# Altium schematic symbol library RES - Surface Mount Chip Resistor.SchLib: 33 symbols (part 1 of 2)
Pins are listed as number, name and electrical type; pins without a type are passive.

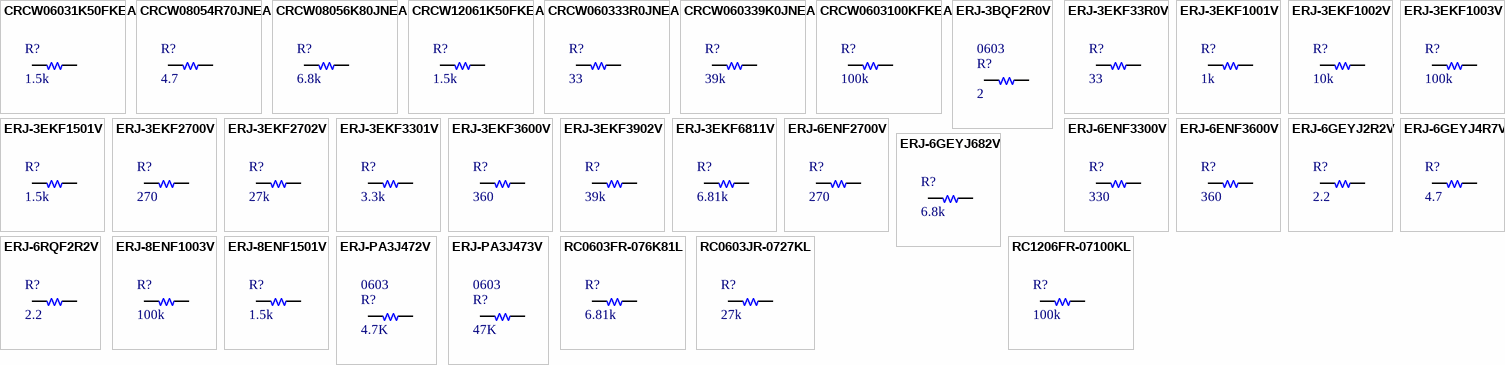
[diagram p0: symbols CRCW06031K50FKEA to RC1206FR-07100KL]

## CRCW06031K50FKEA
designator R?, comment 1.5k
RES SMD 1.5K OHM 1% 1/10W 0603; Manufacturer: Vishay Dale; Manufacturer Part Number: CRCW06031K50FKEA; Power (Watts): 0.1W, 1/10W; Temperature Coefficient: ±100ppm/°C; Power Rating: 100 mW; Voltage Rating: 75 V; Brand: Vishay / Dale; Supplier 1: Digi-Key; RoHS: RoHS Compliant; Category: Resistors; Stock 1: 135073; Pricing 1: 1=0.1, 10=0.03, 25=0.022, 50=0.0168, 100=0.0123, 250=0.0094, 500=0.00752, 1000=0.00554, 2500=0.00481 (USD); Packaging: Cut Tape (CT); Part Status: Active; Tolerance: ±1%; Composition: Thick Film; Features: Automotive AEC-Q200; Operating Temperature: -55°C ~ 155°C; Package: 0603 (1608 Metric); Supplier Device Package: 0603; Size / Dimension: 0.063" L x 0.033" W (1.60mm x 0.85mm); Height - Seated (Max): 0.020" (0.50mm); Number of Terminations: 2; Failure Rate: -; ComponentLink1URL: http://www.vishay.com/docs/20035/dcrcwe3.pdf; ComponentLink1Description: http://www.vishay.com/docs/20035/dcrcwe3.pdf; Supplier 2: Mouser; Stock 2: 209952; Pricing 2: 1=0.100, 10=0.044, 100=0.026, 500=0.021, 1000=0.018, 5000=0.006, 25000=0.005, 50000=0.004 (USD); Height: 0.45 mm; Length: 1.55 mm; Operating Temperature Range: - 55 C to + 155 C; Product: Thick Film Resistors SMD; Resistance: 1.5k; Series: CRCW; Termination Style: SMD/SMT; Width: 0.85 mm; Case Code - in: 0603; Case Code - mm: 1608; Standard Pack Qty: 5000; RoHS - Mouser: E; Minimum Order Quantity: 1; Reeling: True; ComponentLink2URL: http://www.mouser.com/ds/2/427/dcrcwe3-109170.pdf; ComponentLink2Description: http://www.mouser.com/ds/2/427/dcrcwe3-109170.pdf; Supplier Part Number 1: 541-1.50KHCT-ND; Supplier Part Number 2: 71-CRCW0603-1.5K-E3
footprint R 0603 (Chip Resistor, 2-Leads, Body 1.6x0.8mm, IPC Medium Density)
pins: 1, 2

## CRCW08054R70JNEA
designator R?, comment 4.7
RES SMD 4.7 OHM 5% 1/8W 0805; Manufacturer: Vishay Dale; Manufacturer Part Number: CRCW08054R70JNEA; Power (Watts): 0.125W, 1/8W; Temperature Coefficient: ±200ppm/°C; Power Rating: 125 mW (1/8 W); Voltage Rating: 150 V; Brand: Vishay / Dale; Supplier 1: Digi-Key; RoHS: RoHS Compliant; Category: Resistors; Stock 1: 35799; Pricing 1: 1=0.1, 10=0.026, 25=0.0184, 50=0.014, 100=0.0104, 250=0.00792, 500=0.00634, 1000=0.00466, 2500=0.00405 (USD); Packaging: Cut Tape (CT); Part Status: Active; Tolerance: ±5%; Composition: Thick Film; Features: Automotive AEC-Q200; Operating Temperature: -55°C ~ 155°C; Package: 0805 (2012 Metric); Supplier Device Package: 0805; Size / Dimension: 0.079" L x 0.049" W (2.00mm x 1.25mm); Height - Seated (Max): 0.020" (0.50mm); Number of Terminations: 2; Failure Rate: -; ComponentLink1URL: http://www.vishay.com/docs/20035/dcrcwe3.pdf; ComponentLink1Description: http://www.vishay.com/docs/20035/dcrcwe3.pdf; Supplier 2: Mouser; Stock 2: 20019; Pricing 2: 1=0.100, 10=0.042, 100=0.024, 500=0.023, 1000=0.017, 5000=0.005, 25000=0.004 (USD); Height: 0.45 mm; Length: 2 mm; Operating Temperature Range: - 55 C to + 155 C; Product: Thick Film Resistors SMD; Resistance: 4.7; Termination Style: SMD/SMT; Width: 1.25 mm; Case Code - in: 0805; Case Code - mm: 2012; Standard Pack Qty: 5000; RoHS - Mouser: E; Minimum Order Quantity: 1; Reeling: True; ComponentLink2URL: http://www.mouser.com/ds/2/427/dcrcwe3-109170.pdf; ComponentLink2Description: http://www.mouser.com/ds/2/427/dcrcwe3-109170.pdf; Supplier Part Number 1: 541-4.7ACT-ND; Supplier Part Number 2: 71-CRCW08054R70JNEA
footprint R 0805 (Chip Resistor, 2-Leads, Body 2.0x1.3mm, IPC Medium Density)
pins: 1, 2

## CRCW08056K80JNEA
designator R?, comment 6.8k
RES SMD 6.8K OHM 5% 1/8W 0805; Manufacturer: Vishay Dale; Manufacturer Part Number: CRCW08056K80JNEA; Power (Watts): 0.125W, 1/8W; Temperature Coefficient: ±200ppm/°C; Power Rating: 125 mW (1/8 W); Voltage Rating: 150 V; Brand: Vishay / Dale; Supplier 1: Digi-Key; RoHS: RoHS Compliant; Category: Resistors; Stock 1: 41524; Pricing 1: 1=0.1, 10=0.026, 25=0.0184, 50=0.014, 100=0.0104, 250=0.00792, 500=0.00634, 1000=0.00466, 2500=0.00405 (USD); Packaging: Cut Tape (CT); Part Status: Active; Tolerance: ±5%; Composition: Thick Film; Features: Automotive AEC-Q200; Operating Temperature: -55°C ~ 155°C; Package: 0805 (2012 Metric); Supplier Device Package: 0805; Size / Dimension: 0.079" L x 0.049" W (2.00mm x 1.25mm); Height - Seated (Max): 0.020" (0.50mm); Number of Terminations: 2; Failure Rate: -; ComponentLink1URL: http://www.vishay.com/docs/20035/dcrcwe3.pdf; ComponentLink1Description: http://www.vishay.com/docs/20035/dcrcwe3.pdf; Supplier 2: Mouser; Stock 2: 12423; Pricing 2: 1=0.100, 10=0.042, 100=0.024, 500=0.023, 1000=0.017, 5000=0.005, 25000=0.004 (USD); Height: 0.45 mm; Length: 2 mm; Operating Temperature Range: - 55 C to + 155 C; Product: Thick Film Resistors SMD; Resistance: 6.8k; Series: CRCW; Termination Style: SMD/SMT; Width: 1.25 mm; Case Code - in: 0805; Case Code - mm: 2012; Standard Pack Qty: 5000; RoHS - Mouser: E; Minimum Order Quantity: 1; Reeling: True; ComponentLink2URL: http://www.mouser.com/ds/2/427/dcrcwe3-109170.pdf; ComponentLink2Description: http://www.mouser.com/ds/2/427/dcrcwe3-109170.pdf; Supplier Part Number 1: 541-6.8KACT-ND; Supplier Part Number 2: 71-CRCW08056K80JNEA
footprint R 0805 (Chip Resistor, 2-Leads, Body 2.0x1.3mm, IPC Medium Density)
pins: 1, 2

## CRCW12061K50FKEA
designator R?, comment 1.5k
RES SMD 1.5K OHM 1% 1/4W 1206; Manufacturer: Vishay Dale; Manufacturer Part Number: CRCW12061K50FKEA; Power (Watts): 0.25W, 1/4W; Temperature Coefficient: ±100ppm/°C; Power Rating: 250 mW (1/4 W); Voltage Rating: 200 V; Brand: Vishay / Dale; Supplier 1: Digi-Key; RoHS: RoHS Compliant; Category: Resistors; Stock 1: 122395; Pricing 1: 1=0.1, 10=0.054, 25=0.0392, 50=0.03, 100=0.0221, 250=0.01684, 500=0.01346, 1000=0.00991, 2500=0.0086 (USD); Packaging: Cut Tape (CT); Part Status: Active; Tolerance: ±1%; Composition: Thick Film; Features: Automotive AEC-Q200; Operating Temperature: -55°C ~ 155°C; Package: 1206 (3216 Metric); Supplier Device Package: 1206; Size / Dimension: 0.126" L x 0.063" W (3.20mm x 1.60mm); Height - Seated (Max): 0.024" (0.60mm); Number of Terminations: 2; Failure Rate: -; ComponentLink1URL: http://www.vishay.com/docs/20035/dcrcwe3.pdf; ComponentLink1Description: http://www.vishay.com/docs/20035/dcrcwe3.pdf; Supplier 2: Mouser; Stock 2: 19350; Pricing 2: 1=0.100, 10=0.055, 100=0.032, 1000=0.022, 5000=0.011, 10000=0.010, 25000=0.009, 50000=0.007, 100000=0.006 (USD); Height: 0.55 mm; Length: 3.2 mm; Operating Temperature Range: - 55 C to + 155 C; Product: Thick Film Resistors SMD; Resistance: 1.5k; Termination Style: SMD/SMT; Width: 1.6 mm; Case Code - in: 1206; Case Code - mm: 3216; Standard Pack Qty: 5000; RoHS - Mouser: E; Minimum Order Quantity: 1; Reeling: True; ComponentLink2URL: http://www.mouser.com/ds/2/427/dcrcwe3-109170.pdf; ComponentLink2Description: http://www.mouser.com/ds/2/427/dcrcwe3-109170.pdf; Supplier Part Number 1: 541-1.50KFCT-ND; Supplier Part Number 2: 71-CRCW1206-1.5K-E3
footprint R 1206 (Chip Resistor, 2-Leads, Body 3.1x1.6mm, IPC Medium Density)
pins: 1, 2

## CRCW060333R0JNEA
designator R?, comment 33
RES SMD 33 OHM 5% 1/10W 0603; Manufacturer: Vishay Dale; Manufacturer Part Number: CRCW060333R0JNEA; Power (Watts): 0.1W, 1/10W; Temperature Coefficient: ±200ppm/°C; Power Rating: 100 mW; Voltage Rating: 75 V; Brand: Vishay / Dale; Qualification: Commercial; Supplier 1: Digi-Key; RoHS: RoHS Compliant; Category: Resistors; Stock 1: 75628; Pricing 1: 1=0.1, 10=0.022, 25=0.016, 50=0.0124, 100=0.0091, 250=0.00692, 500=0.00554, 1000=0.00408, 2500=0.00354 (USD); Packaging: Cut Tape (CT); Part Status: Active; Tolerance: ±5%; Composition: Thick Film; Features: Automotive AEC-Q200; Operating Temperature: -55°C ~ 155°C; Package: 0603 (1608 Metric); Supplier Device Package: 0603; Size / Dimension: 0.063" L x 0.033" W (1.60mm x 0.85mm); Height - Seated (Max): 0.020" (0.50mm); Number of Terminations: 2; Failure Rate: -; ComponentLink1URL: http://www.vishay.com/docs/20035/dcrcwe3.pdf; ComponentLink1Description: http://www.vishay.com/docs/20035/dcrcwe3.pdf; Supplier 2: Mouser; Stock 2: 58097; Pricing 2: 1=0.100, 10=0.010, 100=0.008, 10000=0.003, 30000=0.002 (USD); Height: 0.45 mm; Length: 1.55 mm; Operating Temperature Range: - 55 C to + 155 C; Product: Thick Film Resistors SMD; Resistance: 33; Series: CRCW; Termination Style: SMD/SMT; Width: 0.85 mm; Case Code - in: 0603; Case Code - mm: 1608; Standard Pack Qty: 10000; RoHS - Mouser: E; Minimum Order Quantity: 1; Reeling: True; ComponentLink2URL: http://www.mouser.com/ds/2/427/dcrcwe3-109170.pdf; ComponentLink2Description: http://www.mouser.com/ds/2/427/dcrcwe3-109170.pdf; Supplier Part Number 1: 541-33GCT-ND; Supplier Part Number 2: 71-CRCW060333R0JNEB
footprint R 0603 (Chip Resistor, 2-Leads, Body 1.6x0.8mm, IPC Medium Density)
pins: 1, 2

## CRCW060339K0JNEA
designator R?, comment 39k
RES SMD 39K OHM 5% 1/10W 0603; Manufacturer: Vishay Dale; Manufacturer Part Number: CRCW060339K0JNEA; Power (Watts): 0.1W, 1/10W; Temperature Coefficient: ±200ppm/°C; Power Rating: 100 mW; Voltage Rating: 75 V; Brand: Vishay / Dale; Supplier 1: Digi-Key; RoHS: RoHS Compliant; Category: Resistors; Stock 1: 24961; Pricing 1: 1=0.1, 10=0.022, 25=0.016, 50=0.0124, 100=0.0091, 250=0.00692, 500=0.00554, 1000=0.00408, 2500=0.00354 (USD); Packaging: Cut Tape (CT); Part Status: Active; Tolerance: ±5%; Composition: Thick Film; Features: Automotive AEC-Q200; Operating Temperature: -55°C ~ 155°C; Package: 0603 (1608 Metric); Supplier Device Package: 0603; Size / Dimension: 0.063" L x 0.033" W (1.60mm x 0.85mm); Height - Seated (Max): 0.020" (0.50mm); Number of Terminations: 2; Failure Rate: -; ComponentLink1URL: http://www.vishay.com/docs/20035/dcrcwe3.pdf; ComponentLink1Description: http://www.vishay.com/docs/20035/dcrcwe3.pdf; Supplier 2: Mouser; Stock 2: 14890; Pricing 2: 1=0.100, 10=0.040, 100=0.023, 500=0.019, 1000=0.016, 5000=0.005, 10000=0.004, 50000=0.003 (USD); Height: 0.45 mm; Length: 1.55 mm; Operating Temperature Range: - 55 C to + 155 C; Product: Thick Film Resistors SMD; Resistance: 39k; Series: CRCW; Termination Style: SMD/SMT; Width: 0.85 mm; Case Code - in: 0603; Case Code - mm: 1608; Standard Pack Qty: 5000; RoHS - Mouser: E; Minimum Order Quantity: 1; Reeling: True; ComponentLink2URL: http://www.mouser.com/ds/2/427/dcrcwe3-109170.pdf; ComponentLink2Description: http://www.mouser.com/ds/2/427/dcrcwe3-109170.pdf; Supplier Part Number 1: 541-39KGCT-ND; Supplier Part Number 2: 71-CRCW0603J-39K-E3
footprint R 0603 (Chip Resistor, 2-Leads, Body 1.6x0.8mm, IPC Medium Density)
pins: 1, 2

## CRCW0603100KFKEA
designator R?, comment 100k
RES SMD 100K OHM 1% 1/10W 0603; Manufacturer: Vishay Dale; Manufacturer Part Number: CRCW0603100KFKEA; Power (Watts): 0.1W, 1/10W; Temperature Coefficient: ±100ppm/°C; Power Rating: 100 mW; Voltage Rating: 75 V; Brand: Vishay / Dale; Supplier 1: Digi-Key; RoHS: RoHS Compliant; Category: Resistors; Stock 1: 560132; Pricing 1: 1=0.1, 10=0.03, 25=0.022, 50=0.0168, 100=0.0123, 250=0.0094, 500=0.00752, 1000=0.00554, 2500=0.00481 (USD); Packaging: Cut Tape (CT); Part Status: Active; Tolerance: ±1%; Composition: Thick Film; Features: Automotive AEC-Q200; Operating Temperature: -55°C ~ 155°C; Package: 0603 (1608 Metric); Supplier Device Package: 0603; Size / Dimension: 0.063" L x 0.033" W (1.60mm x 0.85mm); Height - Seated (Max): 0.020" (0.50mm); Number of Terminations: 2; Failure Rate: -; ComponentLink1URL: http://www.vishay.com/docs/20035/dcrcwe3.pdf; ComponentLink1Description: http://www.vishay.com/docs/20035/dcrcwe3.pdf; Supplier 2: Mouser; Stock 2: 655655; Pricing 2: 1=0.100, 10=0.044, 100=0.026, 500=0.021, 1000=0.018, 5000=0.006, 25000=0.005, 50000=0.004 (USD); Height: 0.45 mm; Length: 1.55 mm; Operating Temperature Range: - 55 C to + 155 C; Product: Thick Film Resistors SMD; Resistance: 100k; Termination Style: SMD/SMT; Width: 0.85 mm; Case Code - in: 0603; Case Code - mm: 1608; Standard Pack Qty: 5000; RoHS - Mouser: E; Minimum Order Quantity: 1; Reeling: True; ComponentLink2URL: http://www.mouser.com/ds/2/427/dcrcwe3-109170.pdf; ComponentLink2Description: http://www.mouser.com/ds/2/427/dcrcwe3-109170.pdf; Supplier Part Number 1: 541-100KHCT-ND; Supplier Part Number 2: 71-CRCW0603-100K-E3
footprint R 0603 (Chip Resistor, 2-Leads, Body 1.6x0.8mm, IPC Medium Density)
pins: 1, 2

## ERJ-3BQF2R0V
designator R?, comment 2  Package: 0603
RES SMD 2 OHM 1% 1/4W 0603; Manufacturer: Panasonic Electronic Components; Manufacturer Part Number: ERJ-3BQF2R0V; Power (Watts): 0.25W, 1/4W; Temperature Coefficient: ±200ppm/°C; Supplier 1: Digi-Key; Supplier Part Number 1: P17377CT-ND; RoHS: RoHS Compliant; Category: Resistors; Stock 1: 4438; Pricing 1: 1=0.35, 10=0.299, 25=0.2176, 50=0.1578, 100=0.117, 250=0.08976, 500=0.07072, 1000=0.04896 (USD); Packaging: Cut Tape (CT); Part Status: Active; Resistance: 2; Tolerance: ±1%; Composition: Thick Film; Features: Automotive AEC-Q200, Current Sense; Operating Temperature: -55°C ~ 125°C; Supplier Device Package: 0603; Size / Dimension: 0.063" L x 0.031" W (1.60mm x 0.80mm); Height - Seated (Max): 0.022" (0.55mm); Failure Rate: -; ComponentLink1URL: https://industrial.panasonic.com/cdbs/www-data/pdf/RDN0000/AOA0000C295.pdf; ComponentLink1Description: https://industrial.panasonic.com/cdbs/www-data/pdf/RDN0000/AOA0000C295.pdf
footprint R 0603 (Chip Resistor, 2-Leads, Body 1.6x0.8mm, IPC Medium Density)
pins: 1, 2

## ERJ-3EKF33R0V
designator R?, comment 33
RES SMD 33 OHM 1% 1/10W 0603; Manufacturer: Panasonic Electronic Components; Manufacturer Part Number: ERJ-3EKF33R0V; Power (Watts): 0.1W, 1/10W; Temperature Coefficient: ±100ppm/°C; Power Rating: 100 mW; Voltage Rating: 75 V; Brand: Panasonic; Qualification: AEC-Q200; Supplier 1: Digi-Key; Supplier Part Number 1: P33.0HCT-ND; RoHS: RoHS Compliant; Category: Resistors; Stock 1: 1440116; Pricing 1: 1=0.1, 50=0.0114, 100=0.0084, 250=0.00644, 500=0.00514, 1000=0.00379 (USD); Packaging: Cut Tape (CT); Part Status: Active; Tolerance: ±1%; Composition: Thick Film; Features: Automotive AEC-Q200; Operating Temperature: -55°C ~ 155°C; Package: 0603 (1608 Metric); Supplier Device Package: 0603; Size / Dimension: 0.063" L x 0.031" W (1.60mm x 0.80mm); Height - Seated (Max): 0.022" (0.55mm); Number of Terminations: 2; Failure Rate: -; ComponentLink1URL: http://industrial.panasonic.com/www-cgi/jvcr13pz.cgi?E+PZ+3+AOA0002+ERJ3EKF33R0V+7+WW; ComponentLink1Description: http://industrial.panasonic.com/www-cgi/jvcr13pz.cgi?E+PZ+3+AOA0002+ERJ3EKF33R0V+7+WW; Supplier 2: Mouser; Supplier Part Number 2: 667-ERJ-3EKF33R0V; Stock 2: 201960; Pricing 2: 1=0.150, 10=0.014, 100=0.006, 1000=0.004, 5000=0.002 (USD); Height: 0.45 mm; Length: 1.6 mm; Operating Temperature Range: - 55 C to + 155 C; Product: Thick Film Resistors SMD; Resistance: 33; Series: ERJ; Termination Style: SMD/SMT; Type: Precision Thick Film Resistors SMD; Width: 0.8 mm; Case Code - in: 0603; Case Code - mm: 1608; Standard Pack Qty: 5000; RoHS - Mouser: E; Minimum Order Quantity: 1; Reeling: True; ComponentLink2URL: http://www.mouser.com/ds/2/315/AOA0000C86-911473.pdf; ComponentLink2Description: http://www.mouser.com/ds/2/315/AOA0000C86-911473.pdf
footprint R 0603 (Chip Resistor, 2-Leads, Body 1.6x0.8mm, IPC Medium Density)
pins: 1, 2

## ERJ-3EKF1001V
designator R?, comment 1k
RES SMD 1K OHM 1% 1/10W 0603; Manufacturer: Panasonic Electronic Components; Manufacturer Part Number: ERJ-3EKF1001V; Power (Watts): 0.1W, 1/10W; Temperature Coefficient: ±100ppm/°C; Power Rating: 100 mW; Voltage Rating: 75 V; Brand: Panasonic; Qualification: AEC-Q200; Supplier 1: Digi-Key; Supplier Part Number 1: P1.00KHCT-ND; RoHS: RoHS Compliant; Category: Resistors; Stock 1: 1674787; Pricing 1: 1=0.1, 50=0.0114, 100=0.0084, 250=0.00644, 500=0.00514, 1000=0.00379 (USD); Packaging: Cut Tape (CT); Part Status: Active; Tolerance: ±1%; Composition: Thick Film; Features: Automotive AEC-Q200; Operating Temperature: -55°C ~ 155°C; Package: 0603 (1608 Metric); Supplier Device Package: 0603; Size / Dimension: 0.063" L x 0.031" W (1.60mm x 0.80mm); Height - Seated (Max): 0.022" (0.55mm); Number of Terminations: 2; Failure Rate: -; ComponentLink1URL: http://industrial.panasonic.com/www-cgi/jvcr13pz.cgi?E+PZ+3+AOA0002+ERJ3EKF1001V+7+WW; ComponentLink1Description: http://industrial.panasonic.com/www-cgi/jvcr13pz.cgi?E+PZ+3+AOA0002+ERJ3EKF1001V+7+WW; Supplier 2: Mouser; Supplier Part Number 2: 667-ERJ-3EKF1001V; Stock 2: 834903; Pricing 2: 1=0.150, 10=0.014, 100=0.006, 1000=0.004, 5000=0.002 (USD); Height: 0.45 mm; Length: 1.6 mm; Operating Temperature Range: - 55 C to + 155 C; Product: Thick Film Resistors SMD; Resistance: 1k; Series: ERJ; Termination Style: SMD/SMT; Type: Precision Thick Film Resistors SMD; Width: 0.8 mm; Case Code - in: 0603; Case Code - mm: 1608; Standard Pack Qty: 5000; RoHS - Mouser: E; Minimum Order Quantity: 1; Reeling: True; ComponentLink2URL: http://www.mouser.com/ds/2/315/AOA0000C86-911473.pdf; ComponentLink2Description: http://www.mouser.com/ds/2/315/AOA0000C86-911473.pdf
footprint R 0603 (Chip Resistor, 2-Leads, Body 1.6x0.8mm, IPC Medium Density)
pins: 1, 2

## ERJ-3EKF1002V
designator R?, comment 10k
RES SMD 10K OHM 1% 1/10W 0603; Manufacturer: Panasonic Electronic Components; Manufacturer Part Number: ERJ-3EKF1002V; Power (Watts): 0.1W, 1/10W; Temperature Coefficient: ±100ppm/°C; Power Rating: 100 mW; Voltage Rating: 75 V; Brand: Panasonic; Qualification: AEC-Q200; Supplier 1: Digi-Key; Supplier Part Number 1: P10.0KHCT-ND; RoHS: RoHS Compliant; Category: Resistors; Stock 1: 8933446; Pricing 1: 1=0.1, 50=0.0114, 100=0.0084, 250=0.00644, 500=0.00514, 1000=0.00379 (USD); Packaging: Cut Tape (CT); Part Status: Active; Tolerance: ±1%; Composition: Thick Film; Features: Automotive AEC-Q200; Operating Temperature: -55°C ~ 155°C; Package: 0603 (1608 Metric); Supplier Device Package: 0603; Size / Dimension: 0.063" L x 0.031" W (1.60mm x 0.80mm); Height - Seated (Max): 0.022" (0.55mm); Number of Terminations: 2; Failure Rate: -; ComponentLink1URL: http://industrial.panasonic.com/www-cgi/jvcr13pz.cgi?E+PZ+3+AOA0002+ERJ3EKF1002V+7+WW; ComponentLink1Description: http://industrial.panasonic.com/www-cgi/jvcr13pz.cgi?E+PZ+3+AOA0002+ERJ3EKF1002V+7+WW; Supplier 2: Mouser; Supplier Part Number 2: 667-ERJ-3EKF1002V; Stock 2: 321816; Pricing 2: 1=0.150, 10=0.014, 100=0.006, 1000=0.004, 5000=0.002 (USD); Height: 0.45 mm; Length: 1.6 mm; Operating Temperature Range: - 55 C to + 155 C; Product: Thick Film Resistors SMD; Resistance: 10k; Series: ERJ; Termination Style: SMD/SMT; Type: Precision Thick Film Resistors SMD; Width: 0.8 mm; Case Code - in: 0603; Case Code - mm: 1608; Standard Pack Qty: 5000; RoHS - Mouser: E; Minimum Order Quantity: 1; Reeling: True; ComponentLink2URL: http://www.mouser.com/ds/2/315/AOA0000C86-911473.pdf; ComponentLink2Description: http://www.mouser.com/ds/2/315/AOA0000C86-911473.pdf
footprint R 0603 (Chip Resistor, 2-Leads, Body 1.6x0.8mm, IPC Medium Density)
pins: 1, 2

## ERJ-3EKF1003V
designator R?, comment 100k
RES SMD 100K OHM 1% 1/10W 0603; Manufacturer: Panasonic Electronic Components; Manufacturer Part Number: ERJ-3EKF1003V; Power (Watts): 0.1W, 1/10W; Temperature Coefficient: ±100ppm/°C; Power Rating: 100 mW; Voltage Rating: 75 V; Brand: Panasonic; Qualification: AEC-Q200; Supplier 1: Digi-Key; Supplier Part Number 1: P100KHCT-ND; RoHS: RoHS Compliant; Category: Resistors; Stock 1: 2821634; Pricing 1: 1=0.1, 50=0.0114, 100=0.0084, 250=0.00644, 500=0.00514, 1000=0.00379 (USD); Packaging: Cut Tape (CT); Part Status: Active; Tolerance: ±1%; Composition: Thick Film; Features: Automotive AEC-Q200; Operating Temperature: -55°C ~ 155°C; Package: 0603 (1608 Metric); Supplier Device Package: 0603; Size / Dimension: 0.063" L x 0.031" W (1.60mm x 0.80mm); Height - Seated (Max): 0.022" (0.55mm); Number of Terminations: 2; Failure Rate: -; ComponentLink1URL: http://industrial.panasonic.com/www-cgi/jvcr13pz.cgi?E+PZ+3+AOA0002+ERJ3EKF1003V+7+WW; ComponentLink1Description: http://industrial.panasonic.com/www-cgi/jvcr13pz.cgi?E+PZ+3+AOA0002+ERJ3EKF1003V+7+WW; Supplier 2: Mouser; Supplier Part Number 2: 667-ERJ-3EKF1003V; Stock 2: 446181; Pricing 2: 1=0.150, 10=0.014, 100=0.006, 1000=0.004, 5000=0.002 (USD); Height: 0.45 mm; Length: 1.6 mm; Operating Temperature Range: - 55 C to + 155 C; Product: Thick Film Resistors SMD; Resistance: 100k; Series: ERJ; Termination Style: SMD/SMT; Type: Precision Thick Film Resistors SMD; Width: 0.8 mm; Case Code - in: 0603; Case Code - mm: 1608; Standard Pack Qty: 5000; RoHS - Mouser: E; Minimum Order Quantity: 1; Reeling: True; ComponentLink2URL: http://www.mouser.com/ds/2/315/AOA0000C86-911473.pdf; ComponentLink2Description: http://www.mouser.com/ds/2/315/AOA0000C86-911473.pdf
footprint R 0603 (Chip Resistor, 2-Leads, Body 1.6x0.8mm, IPC Medium Density)
pins: 1, 2

## ERJ-3EKF1501V
designator R?, comment 1.5k
RES SMD 1.5K OHM 1% 1/10W 0603; Manufacturer: Panasonic Electronic Components; Manufacturer Part Number: ERJ-3EKF1501V; Power (Watts): 0.1W, 1/10W; Temperature Coefficient: ±100ppm/°C; Power Rating: 100 mW; Voltage Rating: 75 V; Brand: Panasonic; Qualification: AEC-Q200; Supplier 1: Digi-Key; Supplier Part Number 1: P1.50KHCT-ND; RoHS: RoHS Compliant; Category: Resistors; Stock 1: 327505; Pricing 1: 1=0.1, 50=0.0114, 100=0.0084, 250=0.00644, 500=0.00514, 1000=0.00379 (USD); Packaging: Cut Tape (CT); Part Status: Active; Tolerance: ±1%; Composition: Thick Film; Features: Automotive AEC-Q200; Operating Temperature: -55°C ~ 155°C; Package: 0603 (1608 Metric); Supplier Device Package: 0603; Size / Dimension: 0.063" L x 0.031" W (1.60mm x 0.80mm); Height - Seated (Max): 0.022" (0.55mm); Number of Terminations: 2; Failure Rate: -; ComponentLink1URL: http://industrial.panasonic.com/www-cgi/jvcr13pz.cgi?E+PZ+3+AOA0002+ERJ3EKF1501V+7+WW; ComponentLink1Description: http://industrial.panasonic.com/www-cgi/jvcr13pz.cgi?E+PZ+3+AOA0002+ERJ3EKF1501V+7+WW; Supplier 2: Mouser; Supplier Part Number 2: 667-ERJ-3EKF1501V; Stock 2: 134982; Pricing 2: 1=0.150, 10=0.014, 100=0.006, 1000=0.004, 5000=0.002 (USD); Height: 0.45 mm; Length: 1.6 mm; Operating Temperature Range: - 55 C to + 155 C; Product: Thick Film Resistors SMD; Resistance: 1.5k; Termination Style: SMD/SMT; Type: Precision Thick Film Resistors SMD; Width: 0.8 mm; Case Code - in: 0603; Case Code - mm: 1608; Standard Pack Qty: 5000; RoHS - Mouser: E; Minimum Order Quantity: 1; Reeling: True; ComponentLink2URL: http://www.mouser.com/ds/2/315/AOA0000C86-911473.pdf; ComponentLink2Description: http://www.mouser.com/ds/2/315/AOA0000C86-911473.pdf
footprint R 0603 (Chip Resistor, 2-Leads, Body 1.6x0.8mm, IPC Medium Density)
pins: 1, 2

## ERJ-3EKF2700V
designator R?, comment 270
RES SMD 270 OHM 1% 1/10W 0603; Manufacturer: Panasonic Electronic Components; Manufacturer Part Number: ERJ-3EKF2700V; Power (Watts): 0.1W, 1/10W; Temperature Coefficient: ±100ppm/°C; Supplier 1: Digi-Key; Supplier Part Number 1: P270HCT-ND; RoHS: RoHS Compliant; Category: Resistors; Stock 1: 150401; Pricing 1: 1=0.1, 50=0.0114, 100=0.0084, 250=0.00644, 500=0.00514, 1000=0.00379 (USD); Packaging: Cut Tape (CT); Part Status: Active; Tolerance: ±1%; Composition: Thick Film; Features: Automotive AEC-Q200; Operating Temperature: -55°C ~ 155°C; Package: 0603 (1608 Metric); Supplier Device Package: 0603; Size / Dimension: 0.063" L x 0.031" W (1.60mm x 0.80mm); Height - Seated (Max): 0.022" (0.55mm); Number of Terminations: 2; Failure Rate: -; ComponentLink1URL: http://industrial.panasonic.com/www-cgi/jvcr13pz.cgi?E+PZ+3+AOA0002+ERJ3EKF2700V+7+WW; ComponentLink1Description: http://industrial.panasonic.com/www-cgi/jvcr13pz.cgi?E+PZ+3+AOA0002+ERJ3EKF2700V+7+WW; Supplier 2: Mouser; Supplier Part Number 2: 667-ERJ-3EKF2700V; Resistance: 270
footprint R 0603 (Chip Resistor, 2-Leads, Body 1.6x0.8mm, IPC Medium Density)
pins: 1, 2

## ERJ-3EKF2702V
designator R?, comment 27k
RES SMD 27K OHM 1% 1/10W 0603; Manufacturer: Panasonic Electronic Components; Manufacturer Part Number: ERJ-3EKF2702V; Power (Watts): 0.1W, 1/10W; Temperature Coefficient: ±100ppm/°C; Power Rating: 100 mW; Voltage Rating: 75 V; Brand: Panasonic; Qualification: AEC-Q200; Supplier 1: Digi-Key; Supplier Part Number 1: P27.0KHCT-ND; RoHS: RoHS Compliant; Category: Resistors; Stock 1: 117085; Pricing 1: 1=0.1, 50=0.0114, 100=0.0084, 250=0.00644, 500=0.00514, 1000=0.00379 (USD); Packaging: Cut Tape (CT); Part Status: Active; Tolerance: ±1%; Composition: Thick Film; Features: Automotive AEC-Q200; Operating Temperature: -55°C ~ 155°C; Package: 0603 (1608 Metric); Supplier Device Package: 0603; Size / Dimension: 0.063" L x 0.031" W (1.60mm x 0.80mm); Height - Seated (Max): 0.022" (0.55mm); Number of Terminations: 2; Failure Rate: -; ComponentLink1URL: http://industrial.panasonic.com/www-cgi/jvcr13pz.cgi?E+PZ+3+AOA0002+ERJ3EKF2702V+7+WW; ComponentLink1Description: http://industrial.panasonic.com/www-cgi/jvcr13pz.cgi?E+PZ+3+AOA0002+ERJ3EKF2702V+7+WW; Supplier 2: Mouser; Supplier Part Number 2: 667-ERJ-3EKF2702V; Stock 2: 59884; Pricing 2: 1=0.150, 10=0.014, 100=0.006, 1000=0.004, 5000=0.002 (USD); Height: 0.45 mm; Length: 1.6 mm; Operating Temperature Range: - 55 C to + 155 C; Product: Thick Film Resistors SMD; Resistance: 27k; Termination Style: SMD/SMT; Type: Precision Thick Film Resistors SMD; Width: 0.8 mm; Case Code - in: 0603; Case Code - mm: 1608; Standard Pack Qty: 5000; RoHS - Mouser: E; Minimum Order Quantity: 1; Reeling: True; ComponentLink2URL: http://www.mouser.com/ds/2/315/AOA0000C86-911473.pdf; ComponentLink2Description: http://www.mouser.com/ds/2/315/AOA0000C86-911473.pdf
footprint R 0603 (Chip Resistor, 2-Leads, Body 1.6x0.8mm, IPC Medium Density)
pins: 1, 2

## ERJ-3EKF3301V
designator R?, comment 3.3k
RES SMD 3.3K OHM 1% 1/10W 0603; Manufacturer: Panasonic Electronic Components; Manufacturer Part Number: ERJ-3EKF3301V; Power (Watts): 0.1W, 1/10W; Temperature Coefficient: ±100ppm/°C; Power Rating: 100 mW; Voltage Rating: 75 V; Brand: Panasonic; Qualification: AEC-Q200; Supplier 1: Digi-Key; Supplier Part Number 1: P3.30KHCT-ND; RoHS: RoHS Compliant; Category: Resistors; Stock 1: 395343; Pricing 1: 1=0.1, 50=0.0114, 100=0.0084, 250=0.00644, 500=0.00514, 1000=0.00379 (USD); Packaging: Cut Tape (CT); Part Status: Active; Tolerance: ±1%; Composition: Thick Film; Features: Automotive AEC-Q200; Operating Temperature: -55°C ~ 155°C; Package: 0603 (1608 Metric); Supplier Device Package: 0603; Size / Dimension: 0.063" L x 0.031" W (1.60mm x 0.80mm); Height - Seated (Max): 0.022" (0.55mm); Number of Terminations: 2; Failure Rate: -; ComponentLink1URL: http://industrial.panasonic.com/www-cgi/jvcr13pz.cgi?E+PZ+3+AOA0002+ERJ3EKF3301V+7+WW; ComponentLink1Description: http://industrial.panasonic.com/www-cgi/jvcr13pz.cgi?E+PZ+3+AOA0002+ERJ3EKF3301V+7+WW; Supplier 2: Mouser; Supplier Part Number 2: 667-ERJ-3EKF3301V; Stock 2: 83643; Pricing 2: 1=0.150, 10=0.014, 100=0.006, 1000=0.004, 5000=0.002 (USD); Height: 0.45 mm; Length: 1.6 mm; Operating Temperature Range: - 55 C to + 155 C; Product: Thick Film Resistors SMD; Resistance: 3.3k; Termination Style: SMD/SMT; Type: Precision Thick Film Resistors SMD; Width: 0.8 mm; Case Code - in: 0603; Case Code - mm: 1608; Standard Pack Qty: 5000; RoHS - Mouser: E; Minimum Order Quantity: 1; Reeling: True; ComponentLink2URL: http://www.mouser.com/ds/2/315/AOA0000C86-911473.pdf; ComponentLink2Description: http://www.mouser.com/ds/2/315/AOA0000C86-911473.pdf
footprint R 0603 (Chip Resistor, 2-Leads, Body 1.6x0.8mm, IPC Medium Density)
pins: 1, 2

## ERJ-3EKF3600V
designator R?, comment 360
RES SMD 360 OHM 1% 1/10W 0603; Manufacturer: Panasonic Electronic Components; Manufacturer Part Number: ERJ-3EKF3600V; Power (Watts): 0.1W, 1/10W; Temperature Coefficient: ±100ppm/°C; Supplier 1: Digi-Key; Supplier Part Number 1: P360HCT-ND; RoHS: RoHS Compliant; Category: Resistors; Stock 1: 101304; Pricing 1: 1=0.1, 50=0.0114, 100=0.0084, 250=0.00644, 500=0.00514, 1000=0.00379 (USD); Packaging: Cut Tape (CT); Part Status: Active; Tolerance: ±1%; Composition: Thick Film; Features: Automotive AEC-Q200; Operating Temperature: -55°C ~ 155°C; Package: 0603 (1608 Metric); Supplier Device Package: 0603; Size / Dimension: 0.063" L x 0.031" W (1.60mm x 0.80mm); Height - Seated (Max): 0.022" (0.55mm); Number of Terminations: 2; Failure Rate: -; ComponentLink1URL: http://industrial.panasonic.com/www-cgi/jvcr13pz.cgi?E+PZ+3+AOA0002+ERJ3EKF3600V+7+WW; ComponentLink1Description: http://industrial.panasonic.com/www-cgi/jvcr13pz.cgi?E+PZ+3+AOA0002+ERJ3EKF3600V+7+WW; Supplier 2: Mouser; Supplier Part Number 2: 667-ERJ-3EKF3600V; Resistance: 360
footprint R 0603 (Chip Resistor, 2-Leads, Body 1.6x0.8mm, IPC Medium Density)
pins: 1, 2

## ERJ-3EKF3902V
designator R?, comment 39k
RES SMD 39K OHM 1% 1/10W 0603; Manufacturer: Panasonic Electronic Components; Manufacturer Part Number: ERJ-3EKF3902V; Power (Watts): 0.1W, 1/10W; Temperature Coefficient: ±100ppm/°C; Power Rating: 100 mW; Voltage Rating: 75 V; Brand: Panasonic; Qualification: AEC-Q200; Supplier 1: Digi-Key; Supplier Part Number 1: P39.0KHCT-ND; RoHS: RoHS Compliant; Category: Resistors; Stock 1: 73592; Pricing 1: 1=0.1, 50=0.0114, 100=0.0084, 250=0.00644, 500=0.00514, 1000=0.00379 (USD); Packaging: Cut Tape (CT); Part Status: Active; Tolerance: ±1%; Composition: Thick Film; Features: Automotive AEC-Q200; Operating Temperature: -55°C ~ 155°C; Package: 0603 (1608 Metric); Supplier Device Package: 0603; Size / Dimension: 0.063" L x 0.031" W (1.60mm x 0.80mm); Height - Seated (Max): 0.022" (0.55mm); Number of Terminations: 2; Failure Rate: -; ComponentLink1URL: http://industrial.panasonic.com/www-cgi/jvcr13pz.cgi?E+PZ+3+AOA0002+ERJ3EKF3902V+7+WW; ComponentLink1Description: http://industrial.panasonic.com/www-cgi/jvcr13pz.cgi?E+PZ+3+AOA0002+ERJ3EKF3902V+7+WW; Supplier 2: Mouser; Supplier Part Number 2: 667-ERJ-3EKF3902V; Stock 2: 117887; Pricing 2: 1=0.150, 10=0.014, 100=0.006, 1000=0.004, 5000=0.002 (USD); Height: 0.45 mm; Length: 1.6 mm; Operating Temperature Range: - 55 C to + 155 C; Product: Thick Film Resistors SMD; Resistance: 39k; Series: ERJ; Termination Style: SMD/SMT; Type: Precision Thick Film Resistors SMD; Width: 0.8 mm; Case Code - in: 0603; Case Code - mm: 1608; Standard Pack Qty: 5000; RoHS - Mouser: E; Minimum Order Quantity: 1; Reeling: True; ComponentLink2URL: http://www.mouser.com/ds/2/315/AOA0000C86-911473.pdf; ComponentLink2Description: http://www.mouser.com/ds/2/315/AOA0000C86-911473.pdf
footprint R 0603 (Chip Resistor, 2-Leads, Body 1.6x0.8mm, IPC Medium Density)
pins: 1, 2

## ERJ-3EKF6811V
designator R?, comment 6.81k
RES SMD 6.81K OHM 1% 1/10W 0603; Manufacturer: Panasonic Electronic Components; Manufacturer Part Number: ERJ-3EKF6811V; Power (Watts): 0.1W, 1/10W; Temperature Coefficient: ±100ppm/°C; Power Rating: 100 mW; Voltage Rating: 75 V; Brand: Panasonic; Qualification: AEC-Q200; Supplier 1: Digi-Key; Supplier Part Number 1: P6.81KHCT-ND; RoHS: RoHS Compliant; Category: Resistors; Stock 1: 89608; Pricing 1: 1=0.1, 50=0.0114, 100=0.0084, 250=0.00644, 500=0.00514, 1000=0.00379 (USD); Packaging: Cut Tape (CT); Part Status: Active; Tolerance: ±1%; Composition: Thick Film; Features: Automotive AEC-Q200; Operating Temperature: -55°C ~ 155°C; Package: 0603 (1608 Metric); Supplier Device Package: 0603; Size / Dimension: 0.063" L x 0.031" W (1.60mm x 0.80mm); Height - Seated (Max): 0.022" (0.55mm); Number of Terminations: 2; Failure Rate: -; ComponentLink1URL: http://industrial.panasonic.com/www-cgi/jvcr13pz.cgi?E+PZ+3+AOA0002+ERJ3EKF6811V+7+WW; ComponentLink1Description: http://industrial.panasonic.com/www-cgi/jvcr13pz.cgi?E+PZ+3+AOA0002+ERJ3EKF6811V+7+WW; Supplier 2: Mouser; Supplier Part Number 2: 667-ERJ-3EKF6811V; Stock 2: 90189; Pricing 2: 1=0.150, 10=0.014, 100=0.006, 1000=0.004, 5000=0.002 (USD); Height: 0.45 mm; Length: 1.6 mm; Operating Temperature Range: - 55 C to + 155 C; Product: Thick Film Resistors SMD; Resistance: 6.81k; Series: ERJ; Termination Style: SMD/SMT; Type: Precision Thick Film Resistors SMD; Width: 0.8 mm; Case Code - in: 0603; Case Code - mm: 1608; Standard Pack Qty: 5000; RoHS - Mouser: E; Minimum Order Quantity: 1; Reeling: True; ComponentLink2URL: http://www.mouser.com/ds/2/315/AOA0000C86-911473.pdf; ComponentLink2Description: http://www.mouser.com/ds/2/315/AOA0000C86-911473.pdf
footprint R 0603 (Chip Resistor, 2-Leads, Body 1.6x0.8mm, IPC Medium Density)
pins: 1, 2

## ERJ-6ENF2700V
designator R?, comment 270
RES SMD 270 OHM 1% 1/8W 0805; Manufacturer: Panasonic Electronic Components; Manufacturer Part Number: ERJ-6ENF2700V; Power (Watts): 0.125W, 1/8W; Temperature Coefficient: ±100ppm/°C; Supplier 1: Digi-Key; Supplier Part Number 1: P270CCT-ND; RoHS: RoHS Compliant; Category: Resistors; Stock 1: 69627; Pricing 1: 1=0.1, 50=0.022, 100=0.0162, 250=0.01236, 500=0.0099, 1000=0.00729 (USD); Packaging: Cut Tape (CT); Part Status: Active; Tolerance: ±1%; Composition: Thick Film; Features: Automotive AEC-Q200; Operating Temperature: -55°C ~ 155°C; Package: 0805 (2012 Metric); Supplier Device Package: 0805; Size / Dimension: 0.079" L x 0.049" W (2.00mm x 1.25mm); Height - Seated (Max): 0.028" (0.70mm); Number of Terminations: 2; Failure Rate: -; ComponentLink1URL: http://industrial.panasonic.com/www-cgi/jvcr13pz.cgi?E+PZ+3+AOA0002+ERJ6ENF2700V+7+WW; ComponentLink1Description: http://industrial.panasonic.com/www-cgi/jvcr13pz.cgi?E+PZ+3+AOA0002+ERJ6ENF2700V+7+WW; Supplier 2: Mouser; Supplier Part Number 2: 667-ERJ-6ENF2700V; Resistance: 270
footprint R 0805 (Chip Resistor, 2-Leads, Body 2.0x1.3mm, IPC Medium Density)
pins: 1, 2

## ERJ-6ENF3300V
designator R?, comment 330
RES SMD 330 OHM 1% 1/8W 0805; Manufacturer: Panasonic Electronic Components; Manufacturer Part Number: ERJ-6ENF3300V; Power (Watts): 0.125W, 1/8W; Temperature Coefficient: ±100ppm/°C; Supplier 1: Digi-Key; Supplier Part Number 1: P330CCT-ND; RoHS: RoHS Compliant; Category: Resistors; Stock 1: 306218; Pricing 1: 1=0.1, 50=0.022, 100=0.0162, 250=0.01236, 500=0.0099, 1000=0.00729 (USD); Packaging: Cut Tape (CT); Part Status: Active; Tolerance: ±1%; Composition: Thick Film; Features: Automotive AEC-Q200; Operating Temperature: -55°C ~ 155°C; Package: 0805 (2012 Metric); Supplier Device Package: 0805; Size / Dimension: 0.079" L x 0.049" W (2.00mm x 1.25mm); Height - Seated (Max): 0.028" (0.70mm); Number of Terminations: 2; Failure Rate: -; ComponentLink1URL: http://industrial.panasonic.com/www-cgi/jvcr13pz.cgi?E+PZ+3+AOA0002+ERJ6ENF3300V+7+WW; ComponentLink1Description: http://industrial.panasonic.com/www-cgi/jvcr13pz.cgi?E+PZ+3+AOA0002+ERJ6ENF3300V+7+WW; Supplier 2: Mouser; Supplier Part Number 2: 667-ERJ-6ENF3300V; Resistance: 330
footprint R 0805 (Chip Resistor, 2-Leads, Body 2.0x1.3mm, IPC Medium Density)
pins: 1, 2

## ERJ-6ENF3600V
designator R?, comment 360
RES SMD 360 OHM 1% 1/8W 0805; Manufacturer: Panasonic Electronic Components; Manufacturer Part Number: ERJ-6ENF3600V; Power (Watts): 0.125W, 1/8W; Temperature Coefficient: ±100ppm/°C; Supplier 1: Digi-Key; Supplier Part Number 1: P360CCT-ND; RoHS: RoHS Compliant; Category: Resistors; Stock 1: 60828; Pricing 1: 1=0.1, 50=0.022, 100=0.0162, 250=0.01236, 500=0.0099, 1000=0.00729 (USD); Packaging: Cut Tape (CT); Part Status: Active; Tolerance: ±1%; Composition: Thick Film; Features: Automotive AEC-Q200; Operating Temperature: -55°C ~ 155°C; Package: 0805 (2012 Metric); Supplier Device Package: 0805; Size / Dimension: 0.079" L x 0.049" W (2.00mm x 1.25mm); Height - Seated (Max): 0.028" (0.70mm); Number of Terminations: 2; Failure Rate: -; ComponentLink1URL: http://industrial.panasonic.com/www-cgi/jvcr13pz.cgi?E+PZ+3+AOA0002+ERJ6ENF3600V+7+WW; ComponentLink1Description: http://industrial.panasonic.com/www-cgi/jvcr13pz.cgi?E+PZ+3+AOA0002+ERJ6ENF3600V+7+WW; Supplier 2: Mouser; Supplier Part Number 2: 667-ERJ-6ENF3600V; Resistance: 360
footprint R 0805 (Chip Resistor, 2-Leads, Body 2.0x1.3mm, IPC Medium Density)
pins: 1, 2

## ERJ-6GEYJ2R2V
designator R?, comment 2.2
RES SMD 2.2 OHM 5% 1/8W 0805; Manufacturer: Panasonic Electronic Components; Manufacturer Part Number: ERJ-6GEYJ2R2V; Power (Watts): 0.125W, 1/8W; Temperature Coefficient: -100/ +600ppm/°C; Power Rating: 125 mW (1/8 W); Voltage Rating: 150 V; Brand: Panasonic; Qualification: AEC-Q200; Supplier 1: Digi-Key; Supplier Part Number 1: P2.2ACT-ND; RoHS: RoHS Compliant; Category: Resistors; Stock 1: 79744; Pricing 1: 1=0.1, 50=0.015, 100=0.011, 250=0.0084, 500=0.00674, 1000=0.00496 (USD); Packaging: Cut Tape (CT); Part Status: Active; Tolerance: ±5%; Composition: Thick Film; Features: Automotive AEC-Q200; Operating Temperature: -55°C ~ 155°C; Package: 0805 (2012 Metric); Supplier Device Package: 0805; Size / Dimension: 0.079" L x 0.049" W (2.00mm x 1.25mm); Height - Seated (Max): 0.028" (0.70mm); Number of Terminations: 2; Failure Rate: -; ComponentLink1URL: http://industrial.panasonic.com/www-cgi/jvcr13pz.cgi?E+PZ+3+AOA0001+ERJ6GEYJ2R2V+7+WW; ComponentLink1Description: http://industrial.panasonic.com/www-cgi/jvcr13pz.cgi?E+PZ+3+AOA0001+ERJ6GEYJ2R2V+7+WW; Supplier 2: Mouser; Supplier Part Number 2: 667-ERJ-6GEYJ2R2V; Stock 2: 22650; Pricing 2: 1=0.100, 10=0.015, 100=0.006, 1000=0.004, 5000=0.003, 10000=0.002 (USD); Height: 0.6 mm; Length: 2 mm; Operating Temperature Range: - 55 C to + 155 C; Product: Thick Film Resistors SMD; Resistance: 2.2; Series: ERJ; Termination Style: SMD/SMT; Type: Thick Film Resistors SMD; Width: 1.25 mm; Case Code - in: 0805; Case Code - mm: 2012; Standard Pack Qty: 5000; RoHS - Mouser: E; Minimum Order Quantity: 1; Reeling: True; ComponentLink2URL: http://www.mouser.com/ds/2/315/AOA0000C84-947596.pdf; ComponentLink2Description: http://www.mouser.com/ds/2/315/AOA0000C84-947596.pdf
footprint R 0805 (Chip Resistor, 2-Leads, Body 2.0x1.3mm, IPC Medium Density)
pins: 1, 2

## ERJ-6GEYJ4R7V
designator R?, comment 4.7
RES SMD 4.7 OHM 5% 1/8W 0805; Manufacturer: Panasonic Electronic Components; Manufacturer Part Number: ERJ-6GEYJ4R7V; Power (Watts): 0.125W, 1/8W; Temperature Coefficient: -100/ +600ppm/°C; Power Rating: 125 mW (1/8 W); Voltage Rating: 150 V; Brand: Panasonic; Qualification: AEC-Q200; Supplier 1: Digi-Key; Supplier Part Number 1: P4.7ACT-ND; RoHS: RoHS Compliant; Category: Resistors; Stock 1: 388455; Pricing 1: 1=0.1, 50=0.015, 100=0.011, 250=0.0084, 500=0.00674, 1000=0.00496 (USD); Packaging: Cut Tape (CT); Part Status: Active; Tolerance: ±5%; Composition: Thick Film; Features: Automotive AEC-Q200; Operating Temperature: -55°C ~ 155°C; Package: 0805 (2012 Metric); Supplier Device Package: 0805; Size / Dimension: 0.079" L x 0.049" W (2.00mm x 1.25mm); Height - Seated (Max): 0.028" (0.70mm); Number of Terminations: 2; Failure Rate: -; ComponentLink1URL: http://industrial.panasonic.com/www-cgi/jvcr13pz.cgi?E+PZ+3+AOA0001+ERJ6GEYJ4R7V+7+WW; ComponentLink1Description: http://industrial.panasonic.com/www-cgi/jvcr13pz.cgi?E+PZ+3+AOA0001+ERJ6GEYJ4R7V+7+WW; Supplier 2: Mouser; Supplier Part Number 2: 667-ERJ-6GEYJ4R7V; Stock 2: 152827; Pricing 2: 1=0.100, 10=0.015, 100=0.006, 1000=0.004, 5000=0.003, 10000=0.002 (USD); Height: 0.6 mm; Length: 2 mm; Operating Temperature Range: - 55 C to + 155 C; Product: Thick Film Resistors SMD; Resistance: 4.7; Termination Style: SMD/SMT; Type: Thick Film Resistors SMD; Width: 1.25 mm; Case Code - in: 0805; Case Code - mm: 2012; Standard Pack Qty: 5000; RoHS - Mouser: E; Minimum Order Quantity: 1; Reeling: True; ComponentLink2URL: http://www.mouser.com/ds/2/315/AOA0000C84-947596.pdf; ComponentLink2Description: http://www.mouser.com/ds/2/315/AOA0000C84-947596.pdf
footprint R 0805 (Chip Resistor, 2-Leads, Body 2.0x1.3mm, IPC Medium Density)
pins: 1, 2

## ERJ-6GEYJ682V
designator R?, comment 6.8k
RES SMD 6.8K OHM 5% 1/8W 0805; Manufacturer: Panasonic Electronic Components; Manufacturer Part Number: ERJ-6GEYJ682V; Power (Watts): 0.125W, 1/8W; Temperature Coefficient: ±200ppm/°C; Power Rating: 125 mW (1/8 W); Voltage Rating: 150 V; Brand: Panasonic; Qualification: AEC-Q200; Supplier 1: Digi-Key; Supplier Part Number 1: P6.8KACT-ND; RoHS: RoHS Compliant; Category: Resistors; Stock 1: 86620; Pricing 1: 1=0.1, 50=0.015, 100=0.011, 250=0.0084, 500=0.00674, 1000=0.00496 (USD); Packaging: Cut Tape (CT); Part Status: Active; Tolerance: ±5%; Composition: Thick Film; Features: Automotive AEC-Q200; Operating Temperature: -55°C ~ 155°C; Package: 0805 (2012 Metric); Supplier Device Package: 0805; Size / Dimension: 0.079" L x 0.049" W (2.00mm x 1.25mm); Height - Seated (Max): 0.028" (0.70mm); Number of Terminations: 2; Failure Rate: -; ComponentLink1URL: http://industrial.panasonic.com/www-cgi/jvcr13pz.cgi?E+PZ+3+AOA0001+ERJ6GEYJ682V+7+WW; ComponentLink1Description: http://industrial.panasonic.com/www-cgi/jvcr13pz.cgi?E+PZ+3+AOA0001+ERJ6GEYJ682V+7+WW; Supplier 2: Mouser; Supplier Part Number 2: 667-ERJ-6GEYJ682V; Stock 2: 75068; Pricing 2: 1=0.100, 10=0.015, 100=0.006, 1000=0.004, 5000=0.003, 10000=0.002 (USD); Height: 0.6 mm; Length: 2 mm; Operating Temperature Range: - 55 C to + 155 C; Product: Thick Film Resistors SMD; Resistance: 6.8k; Series: ERJ; Termination Style: SMD/SMT; Type: Thick Film Resistors SMD; Width: 1.25 mm; Case Code - in: 0805; Case Code - mm: 2012; Standard Pack Qty: 5000; RoHS - Mouser: E; Minimum Order Quantity: 1; Reeling: True; ComponentLink2URL: http://www.mouser.com/ds/2/315/AOA0000C84-947596.pdf; ComponentLink2Description: http://www.mouser.com/ds/2/315/AOA0000C84-947596.pdf
footprint R 0805 (Chip Resistor, 2-Leads, Body 2.0x1.3mm, IPC Medium Density)
pins: 1, 2

## ERJ-6RQF2R2V
designator R?, comment 2.2
RES SMD 2.2 OHM 1% 1/8W 0805; Manufacturer: Panasonic Electronic Components; Manufacturer Part Number: ERJ-6RQF2R2V; Power (Watts): 0.125W, 1/8W; Temperature Coefficient: ±200ppm/°C; Power Rating: 125 mW (1/8 W); Brand: Panasonic; Qualification: AEC-Q200; Supplier 1: Digi-Key; RoHS: RoHS Compliant; Category: Resistors; Stock 1: 46645; Pricing 1: 1=0.57, 50=0.2266, 100=0.1748, 250=0.13596, 500=0.09584, 1000=0.06993 (USD); Packaging: Cut Tape (CT); Part Status: Active; Tolerance: ±1%; Composition: Thick Film; Features: Automotive AEC-Q200, Current Sense; Operating Temperature: -55°C ~ 125°C; Package: 0805 (2012 Metric); Supplier Device Package: 0805; Size / Dimension: 0.079" L x 0.049" W (2.00mm x 1.25mm); Height - Seated (Max): 0.028" (0.70mm); Number of Terminations: 2; Failure Rate: -; ComponentLink1URL: https://industrial.panasonic.com/cdbs/www-data/pdf/RDA0000/AOA0000C239.pdf; ComponentLink1Description: https://industrial.panasonic.com/cdbs/www-data/pdf/RDA0000/AOA0000C239.pdf; Supplier 2: Mouser; Stock 2: 25180; Pricing 2: 1=0.570, 10=0.226, 100=0.135, 500=0.095, 1000=0.069, 5000=0.038, 10000=0.036, 25000=0.034, 50000=0.033 (USD); Height: 0.6 mm; Length: 2 mm; Operating Temperature Range: - 55 C to + 125 C; Product: Thick Film Resistors SMD; Resistance: 2.2; Series: ERJ; Technology: Thick Film; Termination Style: SMD/SMT; Type: Thick Film Resistors, Low Resistance Type; Width: 1.2 mm; Case Code - in: 0805; Case Code - mm: 2012; Standard Pack Qty: 5000; Termination: -; RoHS - Mouser: E; Minimum Order Quantity: 1; Reeling: True; ComponentLink2URL: http://www.mouser.com/ds/2/315/AOA0000C239-947529.pdf; ComponentLink2Description: http://www.mouser.com/ds/2/315/AOA0000C239-947529.pdf; Supplier Part Number 1: P2.2DCT-ND; Supplier Part Number 2: 667-ERJ-6RQF2R2V
footprint R 0805 (Chip Resistor, 2-Leads, Body 2.0x1.3mm, IPC Medium Density)
pins: 1, 2

## ERJ-8ENF1003V
designator R?, comment 100k
RES SMD 100K OHM 1% 1/4W 1206; Manufacturer: Panasonic Electronic Components; Manufacturer Part Number: ERJ-8ENF1003V; Power (Watts): 0.25W, 1/4W; Temperature Coefficient: ±100ppm/°C; Power Rating: 250 mW (1/4 W); Voltage Rating: 200 V; Brand: Panasonic; Qualification: AEC-Q200; Supplier 1: Digi-Key; Supplier Part Number 1: P100KFCT-ND; RoHS: RoHS Compliant; Category: Resistors; Stock 1: 635930; Pricing 1: 1=0.1, 50=0.0282, 100=0.0208, 250=0.01584, 500=0.01268, 1000=0.00933 (USD); Packaging: Cut Tape (CT); Part Status: Active; Tolerance: ±1%; Composition: Thick Film; Features: Automotive AEC-Q200; Operating Temperature: -55°C ~ 155°C; Package: 1206 (3216 Metric); Supplier Device Package: 1206; Size / Dimension: 0.126" L x 0.063" W (3.20mm x 1.60mm); Height - Seated (Max): 0.028" (0.70mm); Number of Terminations: 2; Failure Rate: -; ComponentLink1URL: http://industrial.panasonic.com/www-cgi/jvcr13pz.cgi?E+PZ+3+AOA0002+ERJ8ENF1003V+7+WW; ComponentLink1Description: http://industrial.panasonic.com/www-cgi/jvcr13pz.cgi?E+PZ+3+AOA0002+ERJ8ENF1003V+7+WW; Supplier 2: Mouser; Supplier Part Number 2: 667-ERJ-8ENF1003V; Stock 2: 124349; Pricing 2: 1=0.100, 10=0.028, 100=0.012, 1000=0.009, 5000=0.006, 10000=0.005, 25000=0.004 (USD); Height: 0.6 mm; Length: 3.2 mm; Operating Temperature Range: - 55 C to + 155 C; Product: Thick Film Resistors SMD; Resistance: 100k; Termination Style: SMD/SMT; Type: Precision Thick Film Resistors SMD; Width: 1.6 mm; Case Code - in: 1206; Case Code - mm: 3216; Standard Pack Qty: 5000; RoHS - Mouser: E; Minimum Order Quantity: 1; Reeling: True; ComponentLink2URL: http://www.mouser.com/ds/2/315/AOA0000C86-911473.pdf; ComponentLink2Description: http://www.mouser.com/ds/2/315/AOA0000C86-911473.pdf
footprint R 1206 (Chip Resistor, 2-Leads, Body 3.1x1.6mm, IPC Medium Density)
pins: 1, 2

## ERJ-8ENF1501V
designator R?, comment 1.5k
RES SMD 1.5K OHM 1% 1/4W 1206; Manufacturer: Panasonic Electronic Components; Manufacturer Part Number: ERJ-8ENF1501V; Power (Watts): 0.25W, 1/4W; Temperature Coefficient: ±100ppm/°C; Power Rating: 250 mW (1/4 W); Voltage Rating: 200 V; Brand: Panasonic; Qualification: AEC-Q200; Supplier 1: Digi-Key; Supplier Part Number 1: P1.50KFCT-ND; RoHS: RoHS Compliant; Category: Resistors; Stock 1: 227687; Pricing 1: 1=0.1, 50=0.0282, 100=0.0208, 250=0.01584, 500=0.01268, 1000=0.00933 (USD); Packaging: Cut Tape (CT); Part Status: Active; Tolerance: ±1%; Composition: Thick Film; Features: Automotive AEC-Q200; Operating Temperature: -55°C ~ 155°C; Package: 1206 (3216 Metric); Supplier Device Package: 1206; Size / Dimension: 0.126" L x 0.063" W (3.20mm x 1.60mm); Height - Seated (Max): 0.028" (0.70mm); Number of Terminations: 2; Failure Rate: -; ComponentLink1URL: http://industrial.panasonic.com/www-cgi/jvcr13pz.cgi?E+PZ+3+AOA0002+ERJ8ENF1501V+7+WW; ComponentLink1Description: http://industrial.panasonic.com/www-cgi/jvcr13pz.cgi?E+PZ+3+AOA0002+ERJ8ENF1501V+7+WW; Supplier 2: Mouser; Supplier Part Number 2: 667-ERJ-8ENF1501V; Stock 2: 57781; Pricing 2: 1=0.100, 10=0.028, 100=0.012, 1000=0.009, 5000=0.006, 10000=0.005, 25000=0.004 (USD); Height: 0.6 mm; Length: 3.2 mm; Operating Temperature Range: - 55 C to + 155 C; Product: Thick Film Resistors SMD; Resistance: 1.5k; Series: ERJ; Termination Style: SMD/SMT; Type: Precision Thick Film Resistors SMD; Width: 1.6 mm; Case Code - in: 1206; Case Code - mm: 3216; Standard Pack Qty: 5000; RoHS - Mouser: E; Minimum Order Quantity: 1; Reeling: True; ComponentLink2URL: http://www.mouser.com/ds/2/315/AOA0000C86-911473.pdf; ComponentLink2Description: http://www.mouser.com/ds/2/315/AOA0000C86-911473.pdf
footprint R 1206 (Chip Resistor, 2-Leads, Body 3.1x1.6mm, IPC Medium Density)
pins: 1, 2

## ERJ-PA3J472V
designator R?, comment 4.7K  Package: 0603
RES SMD 4.7K OHM 5% 1/4W 0603; Manufacturer: Panasonic Electronic Components; Manufacturer Part Number: ERJ-PA3J472V; Power (Watts): 0.25W, 1/4W; Temperature Coefficient: ±200ppm/°C; Supplier 1: Digi-Key; Supplier Part Number 1: P4.7KBZCT-ND; RoHS: RoHS Compliant; Category: Resistors; Stock 1: 4628; Pricing 1: 1=0.11, 10=0.1, 100=0.0384, 1000=0.0169, 2500=0.0146 (USD); Packaging: Cut Tape (CT); Part Status: Active; Tolerance: ±5%; Composition: Thick Film; Features: Automotive AEC-Q200, Pulse Withstanding; Operating Temperature: -55°C ~ 155°C; Supplier Device Package: 0603; Size / Dimension: 0.063" L x 0.031" W (1.60mm x 0.80mm); Height - Seated (Max): 0.022" (0.55mm); Failure Rate: -; ComponentLink1URL: https://industrial.panasonic.com/cdbs/www-data/pdf/RDO0000/AOA0000C331.pdf; ComponentLink1Description: https://industrial.panasonic.com/cdbs/www-data/pdf/RDO0000/AOA0000C331.pdf; Resistance: 4.7K
footprint R 0603 (Chip Resistor, 2-Leads, Body 1.6x0.8mm, IPC Medium Density)
pins: 1, 2

## ERJ-PA3J473V
designator R?, comment 47K  Package: 0603
RES SMD 47K OHM 5% 1/4W 0603; Manufacturer: Panasonic Electronic Components; Manufacturer Part Number: ERJ-PA3J473V; Power (Watts): 0.25W, 1/4W; Temperature Coefficient: ±200ppm/°C; Supplier 1: Digi-Key; Supplier Part Number 1: P47KBZCT-ND; RoHS: RoHS Compliant; Category: Resistors; Stock 1: 252; Pricing 1: 1=0.11, 10=0.1, 100=0.0384, 1000=0.0169, 2500=0.0146 (USD); Packaging: Cut Tape (CT); Part Status: Active; Tolerance: ±5%; Composition: Thick Film; Features: Automotive AEC-Q200, Pulse Withstanding; Operating Temperature: -55°C ~ 155°C; Supplier Device Package: 0603; Size / Dimension: 0.063" L x 0.031" W (1.60mm x 0.80mm); Height - Seated (Max): 0.022" (0.55mm); Failure Rate: -; ComponentLink1URL: https://industrial.panasonic.com/cdbs/www-data/pdf/RDO0000/AOA0000C331.pdf; ComponentLink1Description: https://industrial.panasonic.com/cdbs/www-data/pdf/RDO0000/AOA0000C331.pdf; Resistance: 47K
footprint R 0603 (Chip Resistor, 2-Leads, Body 1.6x0.8mm, IPC Medium Density)
pins: 1, 2